# EAGLE library part SHIFT_REGISTER_74HC595 (library Z)
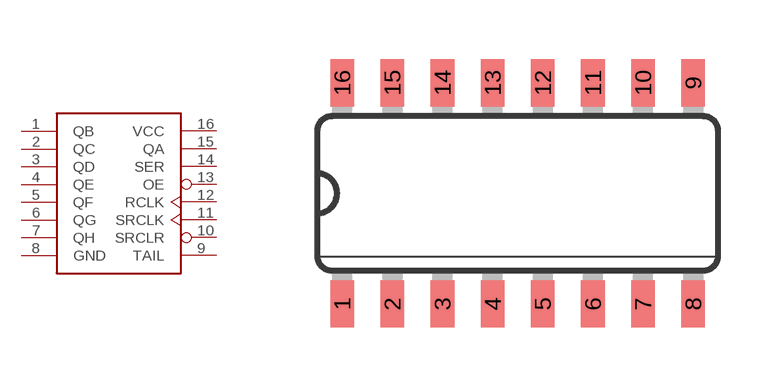
[diagram p6: symbol with the pads of _PACKAGE_SOIC-16-N; footprint _PACKAGE_SOIC-16-N]

Designator prefix -

## SHIFT_REGISTER_74HC595  [_PACKAGE_SOIC-16-N]
1  QB
2  QC
3  QD
4  QE
5  QF
6  QG
7  QH
8  GND
9  TAIL
10  SRCLR
11  SRCLK
12  RCLK
13  OE
14  SER
15  QA
16  VCC

## Footprint _PACKAGE_SOIC-16-N (pad centres in mm)
Small Outline package 150 mil
smd 0.6 x 1.2: 1 -4.445,-2.8; 2 -3.175,-2.8; 3 -1.905,-2.8; 4 -0.635,-2.8; 5 0.635,-2.8; 6 1.905,-2.8; 7 3.175,-2.8; 8 4.445,-2.8; 9 4.445,2.8; 10 3.175,2.8; 11 1.905,2.8; 12 0.635,2.8; 13 -0.635,2.8; 14 -1.905,2.8; 15 -3.175,2.8; 16 -4.445,2.8